# EAGLE library part PCIE_EDGE (library tide_clock)
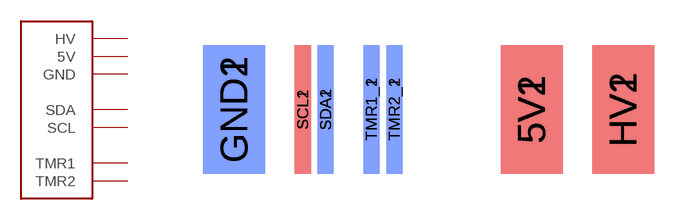
[diagram p14: symbol with the pads of PCIE_EDGE; footprint PCIE_EDGE]

Designator prefix J

## PCIE_EDGE  [PCIE_EDGE]
5V1  5V  pas
5V2  5V  pas
GND1  GND  pas
GND2  GND  pas
HV1  HV  pas
HV2  HV  pas
SCL1  SCL
SCL2  SCL
SDA1  SDA
SDA2  SDA
TMR1_1  TMR1
TMR1_2  TMR1
TMR2_1  TMR2
TMR2_2  TMR2

## Footprint PCIE_EDGE (pad centres in mm)
smd 2.7 x 5.6: 5V1 19.7,-5.6; GND1 6.7,-5.6; HV1 23.7,-5.6
smd 2.7 x 5.6 bottom: 5V2 19.7,-5.6; GND2 6.7,-5.6; HV2 23.7,-5.6
smd 0.7 x 5.6: SCL1 9.7,-5.6; SDA1 10.7,-5.6; TMR1_1 12.7,-5.6; TMR2_1 13.7,-5.6
smd 0.7 x 5.6 bottom: SCL2 9.7,-5.6; SDA2 10.7,-5.6; TMR1_2 12.7,-5.6; TMR2_2 13.7,-5.6